# Altium footprint library Footprint.PcbLib: 155 footprints (part 1 of 10)
Each footprint in its own frame and in the unit in brackets; x right, y up, seen from the top. Pads: shape width x height; smd on the part's side, far side on the other; paste and mask are expansions set on the pad; w line width, h text height; cw(c..) or ccw(c..) is an arc to the next point about the centre after c.
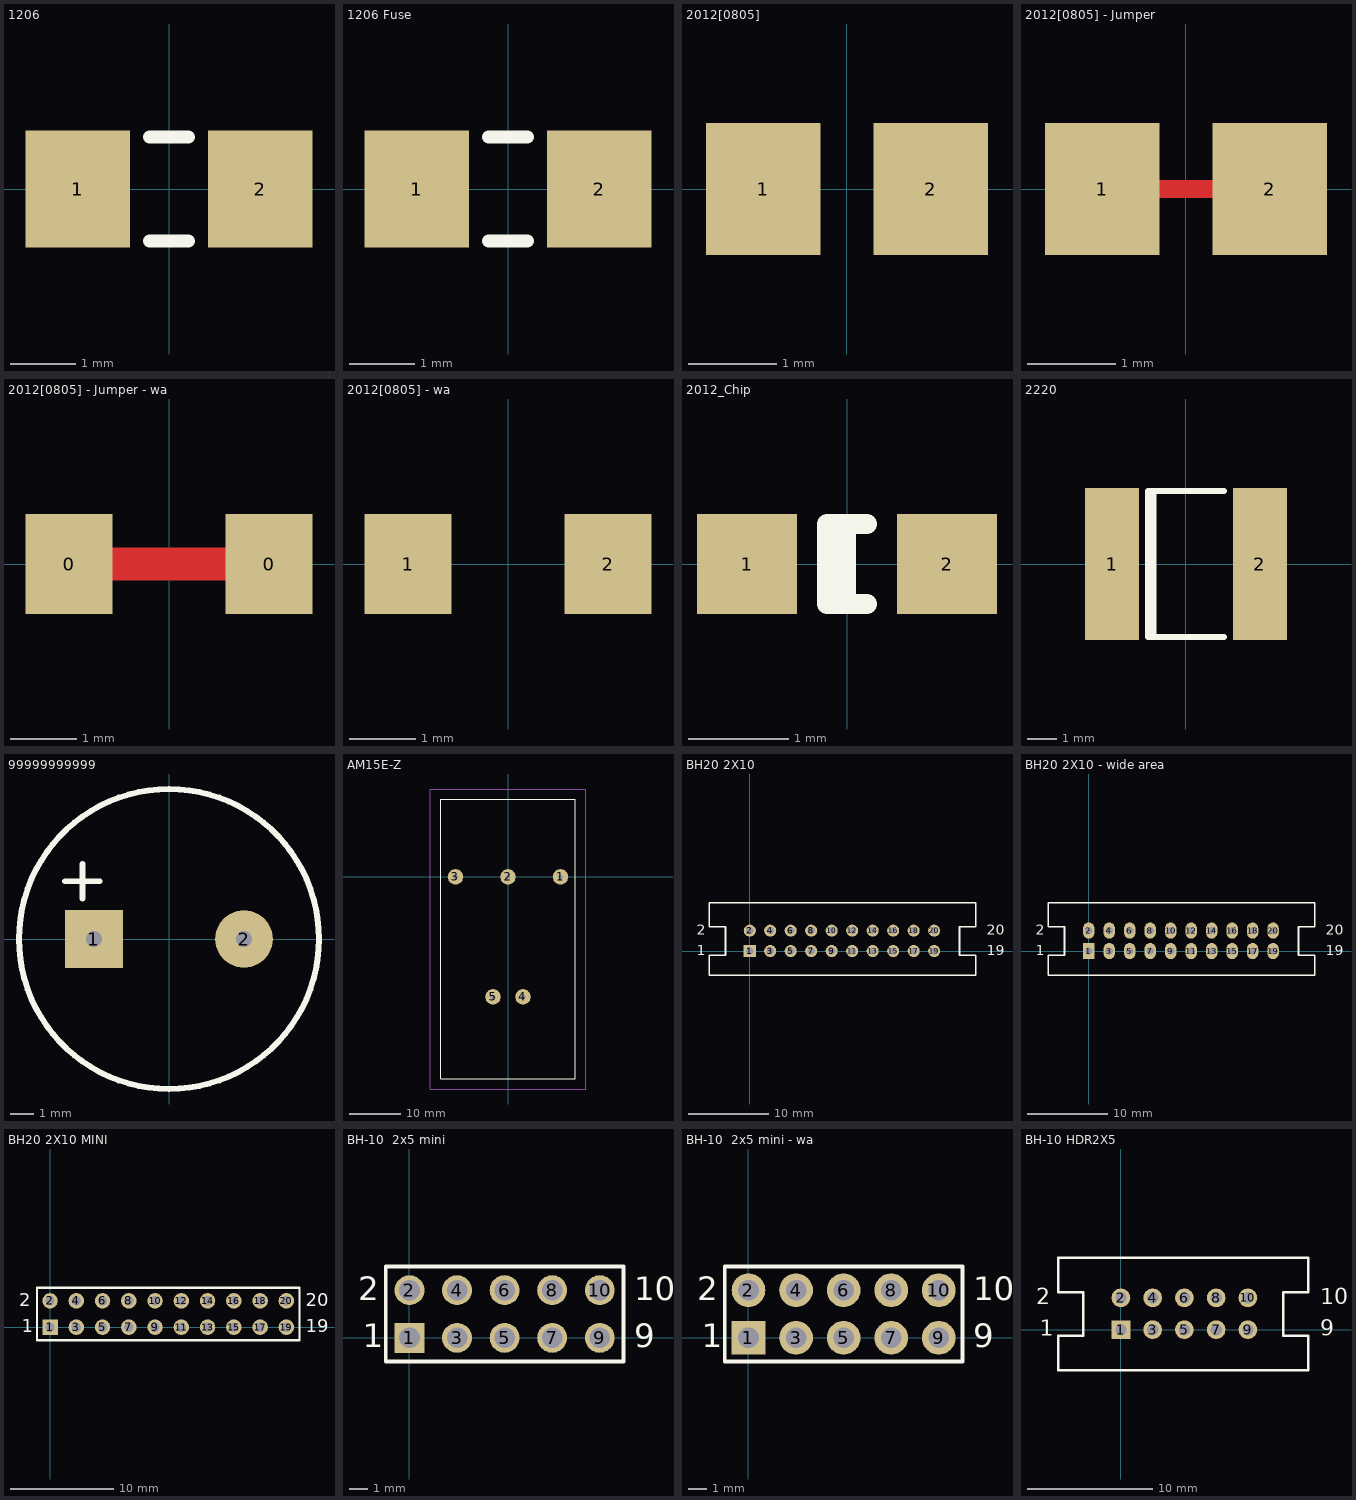
[diagram p0: the footprints below, top view; thin cyan lines are the x and y axes]

## 1206 [mm] "Chip Resistor; Body 3.1 x 1.6 mm (LxW typ)"
height 0.7
pads (2):
  rect 1.6x1.8 smd: 1(-1.4,0) 2(1.4,0)
Top Overlay:
  lines w0.2: -0.3,-0.8 0.3,-0.8 ; -0.3,0.8 0.3,0.8

## 1206 Fuse [mm] "Chip Fuse Body 3.1 x 1.6 mm (LxW typ)"
height 0.7
pads (2):
  rect 1.6x1.8 smd: 1(-1.4,0) 2(1.4,0)
Top Overlay:
  lines w0.2: -0.3,-0.8 0.3,-0.8 ; -0.3,0.8 0.3,0.8

## 2012[0805] [mm] "Chip Resistor; Body 2.0 x 1.3 mm (LxW typ)"
height 2.54
pads (2):
  rect 1.3x1.5 smd: 1(-0.95,0) 2(0.95,0)

## 2012[0805] - Jumper [mm] "Jumper. Перемычка. Chip Resistor; Body 2.0 x 1.3 mm (LxW typ)"
height 2.54
pads (2):
  rect 1.3x1.5 smd: 1(-0.95,0) 2(0.95,0)
Top Layer:
  lines w0.2: -0.5,0 0.5,0

## 2012[0805] - Jumper - wa [mm] "Chip Resistor; Body 2.0 x 1.3 mm (LxW typ)"
height 2.54
pads (2):
  rect 1.3x1.5 smd: 0(-1.5,0) 0(1.5,0)
Top Layer:
  lines w0.5: -1,0 1,0

## 2012[0805] - wa [mm] "Chip Resistor; Body 2.0 x 1.3 mm (LxW typ)"
height 2.54
pads (2):
  rect 1.3x1.5 smd: 1(-1.5,0) 2(1.5,0)

## 2012_Chip [mm] "2012 Chip; Chip Inductor; Body 2.0 x 1.2 mm (LxW typ)"
height 0.55
pads (2):
  rect 1x1 smd: 1(-1,0) 2(1,0)
Top Overlay:
  lines w0.2: -0.01,-0.4 -0.01,0.4 ; 0.2,-0.4 -0.2,-0.4 -0.2,0.4 0.2,0.4

## 2220 [mm] "Chip Capacitor, Inductor Murata; Body 5.7 x 5.0 mm (LxW typ)"
height 1.8
pads (2):
  rect 1.85x5.2 smd: 1(-2.525,0) 2(2.525,0)
Top Overlay:
  lines w0.2: -1.11,-2.5 -1.11,2.5 ; 1.3,-2.5 -1.3,-2.5 -1.3,2.5 1.3,2.5

## 99999999999 [mm]
pads (2):
  rect 2.5x2.5 hole 0.7: 1(-3.25,0)
  round 2.5 hole 0.7: 2(3.25,0)
Top Overlay:
  circle w0.254: c0,0 r6.5
  lines w0.254: -4.5,2.5 -3,2.5 ; -3.75,1.75 -3.75,3.25

## AM15E-Z [mm] "DC-DC www.aimtec.com Series AM15E-Z"
pads (5):
  round 3 hole 1: 1(10.15,0) 2(0,0) 3(-10.15,0) 4(2.9,-23.2) 5(-2.9,-23.2)
Top Overlay:
  lines w0.2: -13,-39 13,-39 13,15 -13,15 -13,-39
Mechanical 15:
  lines w0.2: -15,-41 15,-41 15,17 -15,17 -15,-41

## BH20 2X10 [mm] "Connector; Header; 10x2 Position"
pads (20):
  rect 1.5x1.5 hole 0.9: 1(0,0)
  round 1.5 hole 0.9: 2(0,2.54) 3(2.54,0) 4(2.54,2.54) 5(5.08,0) 6(5.08,2.54) 7(7.62,0) 8(7.62,2.54) 9(10.16,0) 10(10.16,2.54) 11(12.7,0) 12(12.7,2.54) 13(15.24,0) 14(15.24,2.54) 15(17.78,0) 16(17.78,2.54) 17(20.32,0) 18(20.32,2.54) 19(22.86,0) 20(22.86,2.54)
Top Overlay:
  lines w0.2: -5,-3 -1.095,-3 28,-3 28,-0.5 26,-0.5 26,3 28,3 28,6 -1.555,6 -5,6 -5,3 -3,3 -3,-0.5 -5,-0.5 -5,-3
  text "2" at -6.54,2.032 h1.27
  text "1" at -6.54,-0.508 h1.27
  text "19" at 29.384,-0.508 h1.27
  text "20" at 29.384,2.032 h1.27

## BH20 2X10 - wide area [mm] "Connector; Header; 10x2 wide area"
pads (20):
  rect 1.4x2 hole 0.9: 1(0,0)
  oval 1.4x2 hole 0.9: 2(0,2.54) 3(2.54,0) 4(2.54,2.54) 5(5.08,0) 6(5.08,2.54) 7(7.62,0) 8(7.62,2.54) 9(10.16,0) 10(10.16,2.54) 11(12.7,0) 12(12.7,2.54) 13(15.24,0) 14(15.24,2.54) 15(17.78,0) 16(17.78,2.54) 17(20.32,0) 18(20.32,2.54) 19(22.86,0) 20(22.86,2.54)
Top Overlay:
  lines w0.2: -5,-3 -5,-0.5 -3,-0.5 -3,3 -5,3 -5,6 -1.555,6 28,6 28,3 26,3 26,-0.5 28,-0.5 28,-3 -1.095,-3 -5,-3
  text "20" at 29.384,2.032 h1.27
  text "19" at 29.384,-0.508 h1.27
  text "1" at -6.54,-0.508 h1.27
  text "2" at -6.54,2.032 h1.27

## BH20 2X10 MINI [mm] "Connector; Header; 10x2 Position"
pads (20):
  rect 1.5x1.5 hole 0.9: 1(0,0)
  round 1.5 hole 0.9: 2(0,2.54) 3(2.54,0) 4(2.54,2.54) 5(5.08,0) 6(5.08,2.54) 7(7.62,0) 8(7.62,2.54) 9(10.16,0) 10(10.16,2.54) 11(12.7,0) 12(12.7,2.54) 13(15.24,0) 14(15.24,2.54) 15(17.78,0) 16(17.78,2.54) 17(20.32,0) 18(20.32,2.54) 19(22.86,0) 20(22.86,2.54)
Top Overlay:
  lines w0.2: -1.27,-1.27 -1.27,3.81 0.635,3.81 24.13,3.81 24.13,-1.27 0.635,-1.27 -1.27,-1.27
  text "2" at -3,2 h1.27
  text "1" at -2.75,-0.5 h1.27
  text "19" at 24.75,-0.5 h1.27
  text "20" at 24.75,2 h1.27

## BH-10  2x5 mini [mm] "Connector; Header; 5x2 Position"
pads (10):
  rect 1.6x1.6 hole 1.1: 1(0,0)
  round 1.6 hole 1.1: 2(0,2.54) 3(2.54,0) 4(2.54,2.54) 5(5.08,0) 6(5.08,2.54) 7(7.62,0) 8(7.62,2.54) 9(10.16,0) 10(10.16,2.54)
Top Overlay:
  lines w0.2: -1.27,-1.27 -1.27,3.81 11.43,3.81 11.43,-1.27 -1.27,-1.27
  text "2" at -2.75,2 h1.27
  text "1" at -2.5,-0.5 h1.27
  text "9" at 12,-0.5 h1.27
  text "10" at 12,2 h1.27

## BH-10  2x5 mini - wa [mm] "Connector; Header; 5x2 Position"
pads (10):
  rect 1.8x1.8 hole 1.1: 1(0,0)
  round 1.8 hole 1.1: 2(0,2.54) 3(2.54,0) 4(2.54,2.54) 5(5.08,0) 6(5.08,2.54) 7(7.62,0) 8(7.62,2.54) 9(10.16,0) 10(10.16,2.54)
Top Overlay:
  lines w0.2: -1.27,-1.27 -1.27,3.81 11.43,3.81 11.43,-1.27 -1.27,-1.27
  text "2" at -2.75,2 h1.27
  text "1" at -2.5,-0.5 h1.27
  text "9" at 12,-0.5 h1.27
  text "10" at 12,2 h1.27

## BH-10 HDR2X5 [mm] "Connector; Header; 5x2 Position"
pads (10):
  rect 1.5x1.5 hole 0.9: 1(0,0)
  round 1.5 hole 0.9: 2(0,2.54) 3(2.54,0) 4(2.54,2.54) 5(5.08,0) 6(5.08,2.54) 7(7.62,0) 8(7.62,2.54) 9(10.16,0) 10(10.16,2.54)
Top Overlay:
  lines w0.2: -5,-3.25 15,-3.25 15,-0.5 13,-0.5 13,3 15,3 15,5.75 -5,5.75 -5,3 -3,3 -3,-0.5 -5,-0.5 -5,-3.25
  text "10" at 15.934,2.032 h1.27
  text "9" at 15.934,-0.508 h1.27
  text "1" at -6.5,-0.5 h1.27
  text "2" at -6.79,2.032 h1.27